# Altium schematic symbol library pporyzala-TI_Lighting.SchLib: 745 symbols (part 13 of 48)
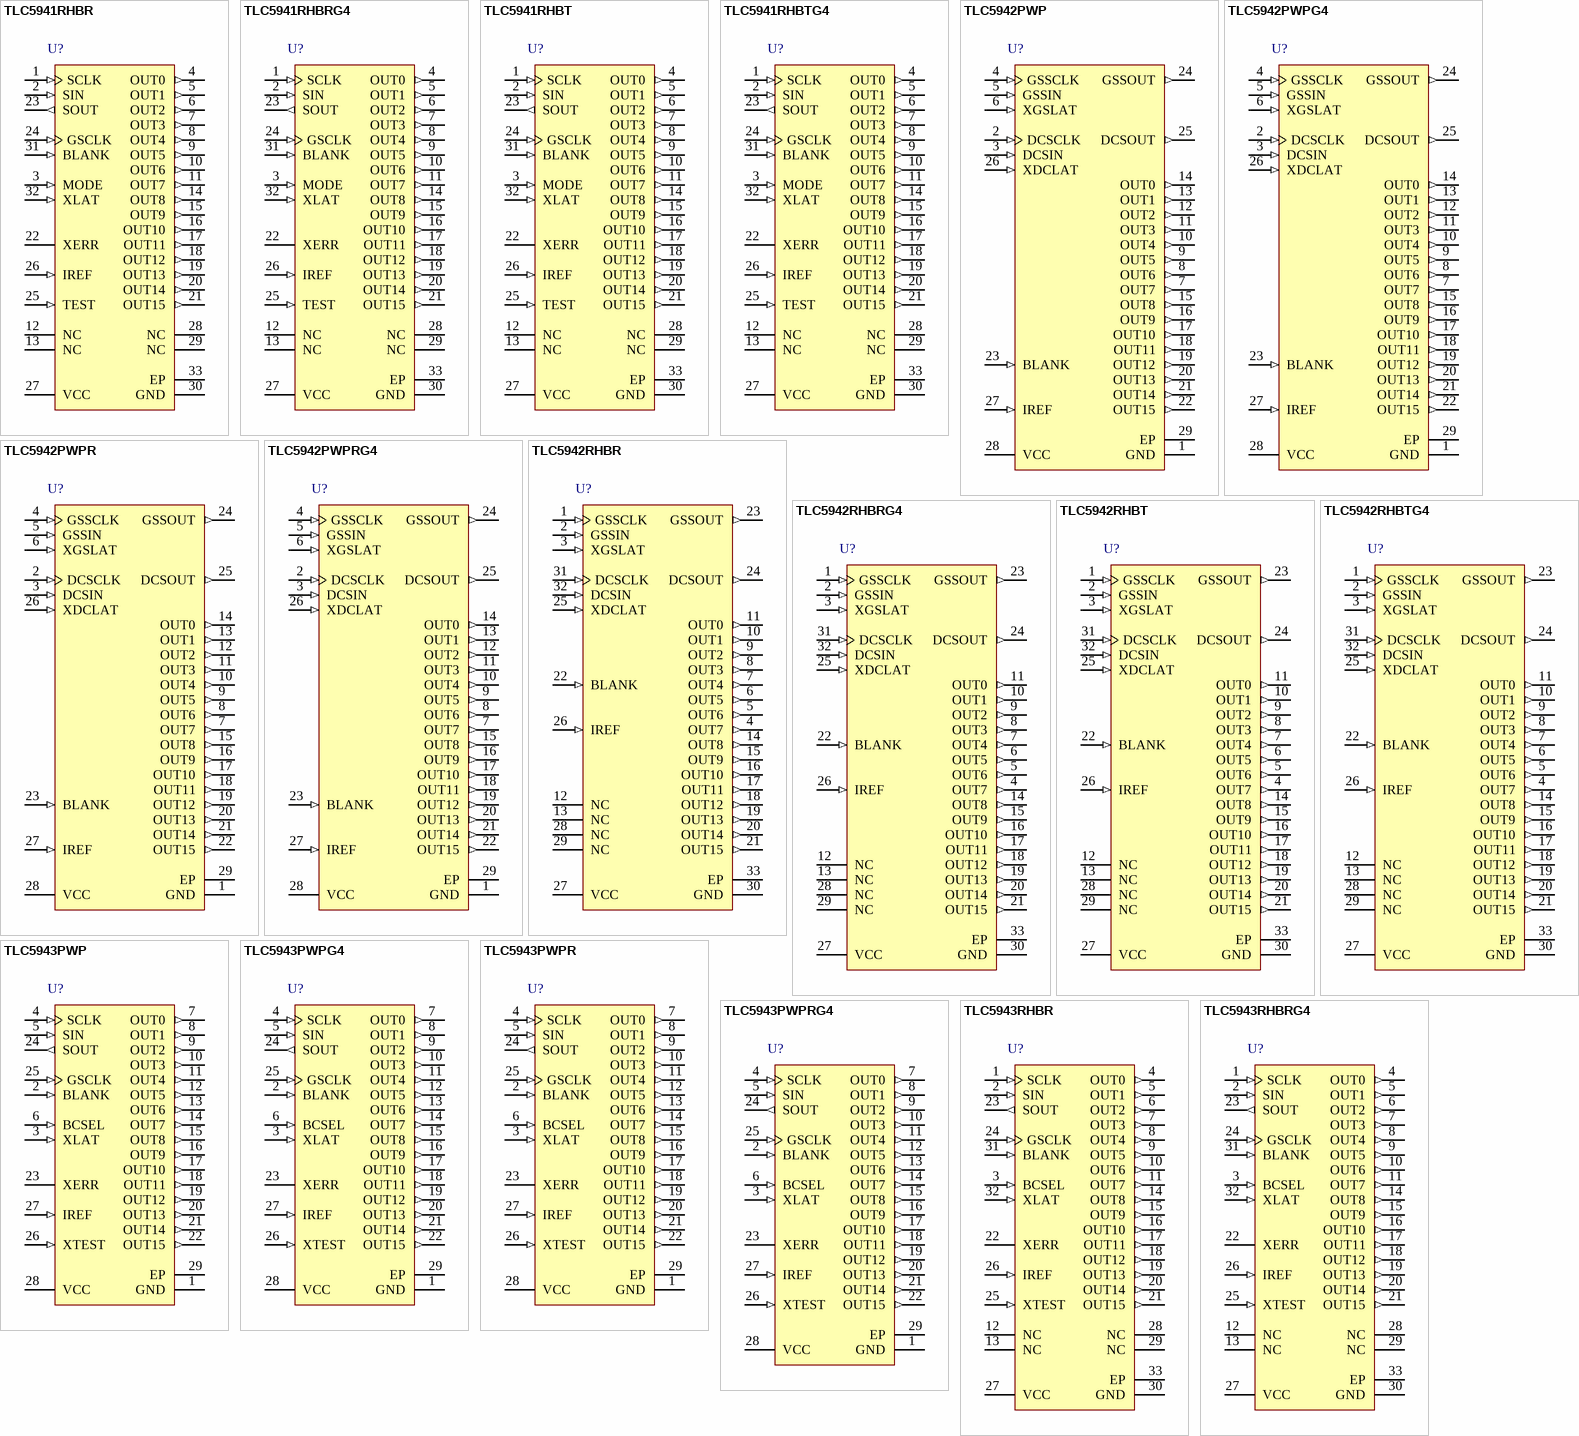
[diagram p43: symbols TLC5941RHBR to TLC5943RHBRG4]

## TLC5942PWPG4
designator U?
16-Channel 12-Bit PWM with 7-Bit DOT Correction, 3 to 5.5 V, -40 to 85 degC, 28-pin SOP (PWP28), Green (RoHS & no Sb/Br); Manufacturer: Texas Instruments; PartNumber: TLC5942PWPG4; Rating: Catalog; SubFamily: LED Driver; Vin(Max)(V): 5.5; Vin(Min)(V): 3; DatasheetVersion: SBVS096B; PackageVersion: 4073225-6/I; PackageReference: PWP28-5720X1950TP; PackageDescription: 28-Pin Plastic Small Outline, Body 4.4 x 9.7 mm, Pitch 0.65 mm; Supplier 1: Digi-Key; Supplier Part Number 1: TLC5942PWPG4-ND; Supplier 2: Mouser; Supplier Part Number 2: 595-TLC5942PWPG4; Eco-Plan: Green (RoHS & no Sb/Br); Mounting Technology: Surface Mount; Code_JEDEC: MO-153; ComponentLink1Description: Manufacturer URL; ComponentLink1URL: http://www.ti.com/; ComponentLink2Description: Datasheet; ComponentLink2URL: http://www.ti.com/general/docs/lit/getliterature.tsp?genericPartNumber=TLC5942&fileType=pdf; ComponentLink3Description: Package Specification; ComponentLink3URL: http://www.ti.com/litv/pdf/mpds373
footprint TI-PWP28-5720X1950TP_N (SOP, 28-Leads, Body 9.7x4.4mm, Pitch 0.65mm, Thermal Pad 5.72 x 1.95mm, IPC Medium Density)
footprint TI-PWP28-5720X1950TP_L (SOP, 28-Leads, Body 9.7x4.4mm, Pitch 0.65mm, Thermal Pad 5.72 x 1.95mm, IPC High Density)
footprint TI-PWP28-5720X1950TP_M (SOP, 28-Leads, Body 9.7x4.4mm, Pitch 0.65mm, Thermal Pad 5.72 x 1.95mm, IPC Low Density)
pins: 1 GND (power) "Power ground", 2 DCSCLK (in) "Serial data shift clock for dot correction. Data present on the DCSIN pin are shifted into the dot correction shift register with each rising edge of the DCSCLK pin. Data are shifted into the LSB of the register with each (See Datasheet)", 3 DCSIN (in) "Serial data input for Dot Correction.", 4 GSSCLK (in) "Serial data shift clock for grayscale and reference clock for Grayscale PWM control. Data present on the GSSIN pin are shifted into the Grayscale Shift Register with each rising edge of the GSSCLK pin. Data are shifted into (See Datasheet)", 5 GSSIN (in) "Serial data input for grayscale.", 6 XGSLAT (in) "Data in the shift register are moved to the grayscale data latch with a low-to-high transition of this pin.", 7 OUT7 (out) "Constant current output", 8 OUT6 (out) "Constant current output", 9 OUT5 (out) "Constant current output", 10 OUT4 (out) "Constant current output", 11 OUT3 (out) "Constant current output", 12 OUT2 (out) "Constant current output", 13 OUT1 (out) "Constant current output", 14 OUT0 (out) "Constant current output", 15 OUT8 (out) "Constant current output", 16 OUT9 (out) "Constant current output", 17 OUT10 (out) "Constant current output", 18 OUT11 (out) "Constant current output", 19 OUT12 (out) "Constant current output", 20 OUT13 (out) "Constant current output", 21 OUT14 (out) "Constant current output", 22 OUT15 (out) "Constant current output", 23 BLANK (in) "Blank (all constant current outputs off). When BLANK is high, all constant current outputs (OUT0 through OUT15) are forced off, the Grayscale counter is reset to '0', and the Grayscale PWM timing controller is initialized. (See Datasheet)", 24 GSSOUT (out) "Serial data output for Grayscale/Status information data. This signal is connected to MSB of Grayscale Shift Register.", 25 DCSOUT (out) "Serial data output for dot correction. This signal is connected to the MSB of the Dot Correction Shift Register.", 26 XDCLAT (in) "Data in the shift register are moved to the dot correction data latch with a low-to-high transition of this pin.", 27 IREF (in) "Constant current value setting. OUT0 through OUT15 sink constant current is set to desired value by connecting an external resistor between IREF and GND.", 28 VCC (power) "Power-supply voltage", 29 EP (power) "Example Solder Mask Defined Pad"

## TLC5942PWPR
designator U?
16-Channel 12-Bit PWM with 7-Bit DOT Correction, 3 to 5.5 V, -40 to 85 degC, 28-pin SOP (PWP28), Green (RoHS & no Sb/Br); Manufacturer: Texas Instruments; PartNumber: TLC5942PWPR; Rating: Catalog; SubFamily: LED Driver; Vin(Max)(V): 5.5; Vin(Min)(V): 3; DatasheetVersion: SBVS096B; PackageVersion: 4073225-6/I; PackageReference: PWP28-5720X1950TP; PackageDescription: 28-Pin Plastic Small Outline, Body 4.4 x 9.7 mm, Pitch 0.65 mm; Supplier 1: Digi-Key; Supplier Part Number 1: TLC5942PWPR-ND; Supplier 2: Mouser; Supplier Part Number 2: 595-TLC5942PWPR; Eco-Plan: Green (RoHS & no Sb/Br); Mounting Technology: Surface Mount; Code_JEDEC: MO-153; ComponentLink1Description: Manufacturer URL; ComponentLink1URL: http://www.ti.com/; ComponentLink2Description: Datasheet; ComponentLink2URL: http://www.ti.com/general/docs/lit/getliterature.tsp?genericPartNumber=TLC5942&fileType=pdf; ComponentLink3Description: Package Specification; ComponentLink3URL: http://www.ti.com/litv/pdf/mpds373
footprint TI-PWP28-5720X1950TP_N (SOP, 28-Leads, Body 9.7x4.4mm, Pitch 0.65mm, Thermal Pad 5.72 x 1.95mm, IPC Medium Density)
footprint TI-PWP28-5720X1950TP_L (SOP, 28-Leads, Body 9.7x4.4mm, Pitch 0.65mm, Thermal Pad 5.72 x 1.95mm, IPC High Density)
footprint TI-PWP28-5720X1950TP_M (SOP, 28-Leads, Body 9.7x4.4mm, Pitch 0.65mm, Thermal Pad 5.72 x 1.95mm, IPC Low Density)
pins: 1 GND (power) "Power ground", 2 DCSCLK (in) "Serial data shift clock for dot correction. Data present on the DCSIN pin are shifted into the dot correction shift register with each rising edge of the DCSCLK pin. Data are shifted into the LSB of the register with each (See Datasheet)", 3 DCSIN (in) "Serial data input for Dot Correction.", 4 GSSCLK (in) "Serial data shift clock for grayscale and reference clock for Grayscale PWM control. Data present on the GSSIN pin are shifted into the Grayscale Shift Register with each rising edge of the GSSCLK pin. Data are shifted into (See Datasheet)", 5 GSSIN (in) "Serial data input for grayscale.", 6 XGSLAT (in) "Data in the shift register are moved to the grayscale data latch with a low-to-high transition of this pin.", 7 OUT7 (out) "Constant current output", 8 OUT6 (out) "Constant current output", 9 OUT5 (out) "Constant current output", 10 OUT4 (out) "Constant current output", 11 OUT3 (out) "Constant current output", 12 OUT2 (out) "Constant current output", 13 OUT1 (out) "Constant current output", 14 OUT0 (out) "Constant current output", 15 OUT8 (out) "Constant current output", 16 OUT9 (out) "Constant current output", 17 OUT10 (out) "Constant current output", 18 OUT11 (out) "Constant current output", 19 OUT12 (out) "Constant current output", 20 OUT13 (out) "Constant current output", 21 OUT14 (out) "Constant current output", 22 OUT15 (out) "Constant current output", 23 BLANK (in) "Blank (all constant current outputs off). When BLANK is high, all constant current outputs (OUT0 through OUT15) are forced off, the Grayscale counter is reset to '0', and the Grayscale PWM timing controller is initialized. (See Datasheet)", 24 GSSOUT (out) "Serial data output for Grayscale/Status information data. This signal is connected to MSB of Grayscale Shift Register.", 25 DCSOUT (out) "Serial data output for dot correction. This signal is connected to the MSB of the Dot Correction Shift Register.", 26 XDCLAT (in) "Data in the shift register are moved to the dot correction data latch with a low-to-high transition of this pin.", 27 IREF (in) "Constant current value setting. OUT0 through OUT15 sink constant current is set to desired value by connecting an external resistor between IREF and GND.", 28 VCC (power) "Power-supply voltage", 29 EP (power) "Example Solder Mask Defined Pad"

## TLC5942PWPRG4
designator U?
16-Channel 12-Bit PWM with 7-Bit DOT Correction, 3 to 5.5 V, -40 to 85 degC, 28-pin SOP (PWP28), Green (RoHS & no Sb/Br); Manufacturer: Texas Instruments; PartNumber: TLC5942PWPRG4; Rating: Catalog; SubFamily: LED Driver; Vin(Max)(V): 5.5; Vin(Min)(V): 3; DatasheetVersion: SBVS096B; PackageVersion: 4073225-6/I; PackageReference: PWP28-5720X1950TP; PackageDescription: 28-Pin Plastic Small Outline, Body 4.4 x 9.7 mm, Pitch 0.65 mm; Supplier 1: Digi-Key; Supplier Part Number 1: TLC5942PWPRG4-ND; Supplier 2: Mouser; Supplier Part Number 2: 595-TLC5942PWPRG4; Eco-Plan: Green (RoHS & no Sb/Br); Mounting Technology: Surface Mount; Code_JEDEC: MO-153; ComponentLink1Description: Manufacturer URL; ComponentLink1URL: http://www.ti.com/; ComponentLink2Description: Datasheet; ComponentLink2URL: http://www.ti.com/general/docs/lit/getliterature.tsp?genericPartNumber=TLC5942&fileType=pdf; ComponentLink3Description: Package Specification; ComponentLink3URL: http://www.ti.com/litv/pdf/mpds373
footprint TI-PWP28-5720X1950TP_N (SOP, 28-Leads, Body 9.7x4.4mm, Pitch 0.65mm, Thermal Pad 5.72 x 1.95mm, IPC Medium Density)
footprint TI-PWP28-5720X1950TP_L (SOP, 28-Leads, Body 9.7x4.4mm, Pitch 0.65mm, Thermal Pad 5.72 x 1.95mm, IPC High Density)
footprint TI-PWP28-5720X1950TP_M (SOP, 28-Leads, Body 9.7x4.4mm, Pitch 0.65mm, Thermal Pad 5.72 x 1.95mm, IPC Low Density)
pins: 1 GND (power) "Power ground", 2 DCSCLK (in) "Serial data shift clock for dot correction. Data present on the DCSIN pin are shifted into the dot correction shift register with each rising edge of the DCSCLK pin. Data are shifted into the LSB of the register with each (See Datasheet)", 3 DCSIN (in) "Serial data input for Dot Correction.", 4 GSSCLK (in) "Serial data shift clock for grayscale and reference clock for Grayscale PWM control. Data present on the GSSIN pin are shifted into the Grayscale Shift Register with each rising edge of the GSSCLK pin. Data are shifted into (See Datasheet)", 5 GSSIN (in) "Serial data input for grayscale.", 6 XGSLAT (in) "Data in the shift register are moved to the grayscale data latch with a low-to-high transition of this pin.", 7 OUT7 (out) "Constant current output", 8 OUT6 (out) "Constant current output", 9 OUT5 (out) "Constant current output", 10 OUT4 (out) "Constant current output", 11 OUT3 (out) "Constant current output", 12 OUT2 (out) "Constant current output", 13 OUT1 (out) "Constant current output", 14 OUT0 (out) "Constant current output", 15 OUT8 (out) "Constant current output", 16 OUT9 (out) "Constant current output", 17 OUT10 (out) "Constant current output", 18 OUT11 (out) "Constant current output", 19 OUT12 (out) "Constant current output", 20 OUT13 (out) "Constant current output", 21 OUT14 (out) "Constant current output", 22 OUT15 (out) "Constant current output", 23 BLANK (in) "Blank (all constant current outputs off). When BLANK is high, all constant current outputs (OUT0 through OUT15) are forced off, the Grayscale counter is reset to '0', and the Grayscale PWM timing controller is initialized. (See Datasheet)", 24 GSSOUT (out) "Serial data output for Grayscale/Status information data. This signal is connected to MSB of Grayscale Shift Register.", 25 DCSOUT (out) "Serial data output for dot correction. This signal is connected to the MSB of the Dot Correction Shift Register.", 26 XDCLAT (in) "Data in the shift register are moved to the dot correction data latch with a low-to-high transition of this pin.", 27 IREF (in) "Constant current value setting. OUT0 through OUT15 sink constant current is set to desired value by connecting an external resistor between IREF and GND.", 28 VCC (power) "Power-supply voltage", 29 EP (power) "Example Solder Mask Defined Pad"

## TLC5942RHBR
designator U?
16-Channel 12-Bit PWM with 7-Bit DOT Correction, 3 to 5.5 V, -40 to 85 degC, 32-pin QFN (RHB32), Green (RoHS & no Sb/Br); Manufacturer: Texas Instruments; PartNumber: TLC5942RHBR; Rating: Catalog; SubFamily: LED Driver; Vin(Max)(V): 5.5; Vin(Min)(V): 3; DatasheetVersion: SBVS096B; PackageVersion: 4204326/D; PackageReference: RHB32-3450X3450TP; PackageDescription: 32-Pin Plastic Flat Pack, Body 5 x 5 mm, Pitch 0.5 mm; Supplier 1: Digi-Key; Supplier Part Number 1: TLC5942RHBR-ND; Supplier 2: Mouser; Supplier Part Number 2: 595-TLC5942RHBR; Eco-Plan: Green (RoHS & no Sb/Br); Mounting Technology: Surface Mount; Code_JEDEC: MO-220; ComponentLink1Description: Manufacturer URL; ComponentLink1URL: http://www.ti.com/; ComponentLink2Description: Datasheet; ComponentLink2URL: http://www.ti.com/general/docs/lit/getliterature.tsp?genericPartNumber=TLC5942&fileType=pdf; ComponentLink3Description: Package Specification; ComponentLink3URL: http://www.ti.com/lit/ml/mpqf130c/mpqf130c.pdf
footprint TI-RHB32-3450X3450TP_V (QFN, 32-Leads, Body 5x5mm, Pitch 0.5mm, Thermal Pad 3.45x3.45mm)
pins: 1 GSSCLK (in) "Serial data shift clock for grayscale and reference clock for Grayscale PWM control. Data present on the GSSIN pin are shifted into the Grayscale Shift Register with each rising edge of the GSSCLK pin. Data are shifted into (See Datasheet)", 2 GSSIN (in) "Serial data input for grayscale.", 3 XGSLAT (in) "Data in the shift register are moved to the grayscale data latch with a low-to-high transition of this pin.", 4 OUT7 (out) "Constant current output", 5 OUT6 (out) "Constant current output", 6 OUT5 (out) "Constant current output", 7 OUT4 (out) "Constant current output", 8 OUT3 (out) "Constant current output", 9 OUT2 (out) "Constant current output", 10 OUT1 (out) "Constant current output", 11 OUT0 (out) "Constant current output", 12 NC "No internal connection", 13 NC "No internal connection", 14 OUT8 (out) "Constant current output", 15 OUT9 (out) "Constant current output", 16 OUT10 (out) "Constant current output", 17 OUT11 (out) "Constant current output", 18 OUT12 (out) "Constant current output", 19 OUT13 (out) "Constant current output", 20 OUT14 (out) "Constant current output", 21 OUT15 (out) "Constant current output", 22 BLANK (in) "Blank (all constant current outputs off). When BLANK is high, all constant current outputs (OUT0 through OUT15) are forced off, the Grayscale counter is reset to '0', and the Grayscale PWM timing controller is initialized. (See Datasheet)", 23 GSSOUT (out) "Serial data output for Grayscale/Status information data. This signal is connected to MSB of Grayscale Shift Register", 24 DCSOUT (out) "Serial data output for dot correction. This signal is connected to the MSB of the Dot Correction Shift Register.", 25 XDCLAT (in) "Data in the shift register are moved to the dot correction data latch with a low-to-high transition of this pin.", 26 IREF (in) "Constant current value setting. OUT0 through OUT15 sink constant current is set to desired value by connecting an external resistor between IREF and GND.", 27 VCC (power) "Power-supply voltage", 28 NC "No internal connection", 29 NC "No internal connection", 30 GND (power) "Power ground", 31 DCSCLK (in) "Serial data shift clock for dot correction. Data present on the DCSIN pin are shifted into the dot correction shift register with each rising edge of the DCSCLK pin. Data are shifted into the LSB of the register with each (See Datasheet)", 32 DCSIN (in) "Serial data input for Dot Correction.", 33 EP (power) "Thermal Pad"

## TLC5942RHBRG4
designator U?
16-Channel 12-Bit PWM with 7-Bit DOT Correction, 3 to 5.5 V, -40 to 85 degC, 32-pin QFN (RHB32), Green (RoHS & no Sb/Br); Manufacturer: Texas Instruments; PartNumber: TLC5942RHBRG4; Rating: Catalog; SubFamily: LED Driver; Vin(Max)(V): 5.5; Vin(Min)(V): 3; DatasheetVersion: SBVS096B; PackageVersion: 4204326/D; PackageReference: RHB32-3450X3450TP; PackageDescription: 32-Pin Plastic Flat Pack, Body 5 x 5 mm, Pitch 0.5 mm; Supplier 1: Digi-Key; Supplier Part Number 1: TLC5942RHBRG4-ND; Supplier 2: Mouser; Supplier Part Number 2: 595-TLC5942RHBRG4; Eco-Plan: Green (RoHS & no Sb/Br); Mounting Technology: Surface Mount; Code_JEDEC: MO-220; ComponentLink1Description: Manufacturer URL; ComponentLink1URL: http://www.ti.com/; ComponentLink2Description: Datasheet; ComponentLink2URL: http://www.ti.com/general/docs/lit/getliterature.tsp?genericPartNumber=TLC5942&fileType=pdf; ComponentLink3Description: Package Specification; ComponentLink3URL: http://www.ti.com/lit/ml/mpqf130c/mpqf130c.pdf
footprint TI-RHB32-3450X3450TP_V (QFN, 32-Leads, Body 5x5mm, Pitch 0.5mm, Thermal Pad 3.45x3.45mm)
pins: 1 GSSCLK (in) "Serial data shift clock for grayscale and reference clock for Grayscale PWM control. Data present on the GSSIN pin are shifted into the Grayscale Shift Register with each rising edge of the GSSCLK pin. Data are shifted into (See Datasheet)", 2 GSSIN (in) "Serial data input for grayscale.", 3 XGSLAT (in) "Data in the shift register are moved to the grayscale data latch with a low-to-high transition of this pin.", 4 OUT7 (out) "Constant current output", 5 OUT6 (out) "Constant current output", 6 OUT5 (out) "Constant current output", 7 OUT4 (out) "Constant current output", 8 OUT3 (out) "Constant current output", 9 OUT2 (out) "Constant current output", 10 OUT1 (out) "Constant current output", 11 OUT0 (out) "Constant current output", 12 NC "No internal connection", 13 NC "No internal connection", 14 OUT8 (out) "Constant current output", 15 OUT9 (out) "Constant current output", 16 OUT10 (out) "Constant current output", 17 OUT11 (out) "Constant current output", 18 OUT12 (out) "Constant current output", 19 OUT13 (out) "Constant current output", 20 OUT14 (out) "Constant current output", 21 OUT15 (out) "Constant current output", 22 BLANK (in) "Blank (all constant current outputs off). When BLANK is high, all constant current outputs (OUT0 through OUT15) are forced off, the Grayscale counter is reset to '0', and the Grayscale PWM timing controller is initialized. (See Datasheet)", 23 GSSOUT (out) "Serial data output for Grayscale/Status information data. This signal is connected to MSB of Grayscale Shift Register", 24 DCSOUT (out) "Serial data output for dot correction. This signal is connected to the MSB of the Dot Correction Shift Register.", 25 XDCLAT (in) "Data in the shift register are moved to the dot correction data latch with a low-to-high transition of this pin.", 26 IREF (in) "Constant current value setting. OUT0 through OUT15 sink constant current is set to desired value by connecting an external resistor between IREF and GND.", 27 VCC (power) "Power-supply voltage", 28 NC "No internal connection", 29 NC "No internal connection", 30 GND (power) "Power ground", 31 DCSCLK (in) "Serial data shift clock for dot correction. Data present on the DCSIN pin are shifted into the dot correction shift register with each rising edge of the DCSCLK pin. Data are shifted into the LSB of the register with each (See Datasheet)", 32 DCSIN (in) "Serial data input for Dot Correction.", 33 EP (power) "Thermal Pad"

## TLC5942RHBT
designator U?
16-Channel 12-Bit PWM with 7-Bit DOT Correction, 3 to 5.5 V, -40 to 85 degC, 32-pin QFN (RHB32), Green (RoHS & no Sb/Br); Manufacturer: Texas Instruments; PartNumber: TLC5942RHBT; Rating: Catalog; SubFamily: LED Driver; Vin(Max)(V): 5.5; Vin(Min)(V): 3; DatasheetVersion: SBVS096B; PackageVersion: 4204326/D; PackageReference: RHB32-3450X3450TP; PackageDescription: 32-Pin Plastic Flat Pack, Body 5 x 5 mm, Pitch 0.5 mm; Supplier 1: Digi-Key; Supplier Part Number 1: 296-22869-2-ND; Supplier 2: Digi-Key; Supplier Part Number 2: 296-22869-1-ND; Supplier 3: Digi-Key; Supplier Part Number 3: 296-22869-6-ND; Supplier 4: Mouser; Supplier Part Number 4: 595-TLC5942RHBT; Eco-Plan: Green (RoHS & no Sb/Br); Mounting Technology: Surface Mount; Code_JEDEC: MO-220; ComponentLink1Description: Manufacturer URL; ComponentLink1URL: http://www.ti.com/; ComponentLink2Description: Datasheet; ComponentLink2URL: http://www.ti.com/general/docs/lit/getliterature.tsp?genericPartNumber=TLC5942&fileType=pdf; ComponentLink3Description: Package Specification; ComponentLink3URL: http://www.ti.com/lit/ml/mpqf130c/mpqf130c.pdf
footprint TI-RHB32-3450X3450TP_V (QFN, 32-Leads, Body 5x5mm, Pitch 0.5mm, Thermal Pad 3.45x3.45mm)
pins: 1 GSSCLK (in) "Serial data shift clock for grayscale and reference clock for Grayscale PWM control. Data present on the GSSIN pin are shifted into the Grayscale Shift Register with each rising edge of the GSSCLK pin. Data are shifted into (See Datasheet)", 2 GSSIN (in) "Serial data input for grayscale.", 3 XGSLAT (in) "Data in the shift register are moved to the grayscale data latch with a low-to-high transition of this pin.", 4 OUT7 (out) "Constant current output", 5 OUT6 (out) "Constant current output", 6 OUT5 (out) "Constant current output", 7 OUT4 (out) "Constant current output", 8 OUT3 (out) "Constant current output", 9 OUT2 (out) "Constant current output", 10 OUT1 (out) "Constant current output", 11 OUT0 (out) "Constant current output", 12 NC "No internal connection", 13 NC "No internal connection", 14 OUT8 (out) "Constant current output", 15 OUT9 (out) "Constant current output", 16 OUT10 (out) "Constant current output", 17 OUT11 (out) "Constant current output", 18 OUT12 (out) "Constant current output", 19 OUT13 (out) "Constant current output", 20 OUT14 (out) "Constant current output", 21 OUT15 (out) "Constant current output", 22 BLANK (in) "Blank (all constant current outputs off). When BLANK is high, all constant current outputs (OUT0 through OUT15) are forced off, the Grayscale counter is reset to '0', and the Grayscale PWM timing controller is initialized. (See Datasheet)", 23 GSSOUT (out) "Serial data output for Grayscale/Status information data. This signal is connected to MSB of Grayscale Shift Register", 24 DCSOUT (out) "Serial data output for dot correction. This signal is connected to the MSB of the Dot Correction Shift Register.", 25 XDCLAT (in) "Data in the shift register are moved to the dot correction data latch with a low-to-high transition of this pin.", 26 IREF (in) "Constant current value setting. OUT0 through OUT15 sink constant current is set to desired value by connecting an external resistor between IREF and GND.", 27 VCC (power) "Power-supply voltage", 28 NC "No internal connection", 29 NC "No internal connection", 30 GND (power) "Power ground", 31 DCSCLK (in) "Serial data shift clock for dot correction. Data present on the DCSIN pin are shifted into the dot correction shift register with each rising edge of the DCSCLK pin. Data are shifted into the LSB of the register with each (See Datasheet)", 32 DCSIN (in) "Serial data input for Dot Correction.", 33 EP (power) "Thermal Pad"

## TLC5942RHBTG4
designator U?
16-Channel 12-Bit PWM with 7-Bit DOT Correction, 3 to 5.5 V, -40 to 85 degC, 32-pin QFN (RHB32), Green (RoHS & no Sb/Br); Manufacturer: Texas Instruments; PartNumber: TLC5942RHBTG4; Rating: Catalog; SubFamily: LED Driver; Vin(Max)(V): 5.5; Vin(Min)(V): 3; DatasheetVersion: SBVS096B; PackageVersion: 4204326/D; PackageReference: RHB32-3450X3450TP; PackageDescription: 32-Pin Plastic Flat Pack, Body 5 x 5 mm, Pitch 0.5 mm; Supplier 1: Digi-Key; Supplier Part Number 1: TLC5942RHBTG4-ND; Supplier 2: Mouser; Supplier Part Number 2: 595-TLC5942RHBTG4; Eco-Plan: Green (RoHS & no Sb/Br); Mounting Technology: Surface Mount; Code_JEDEC: MO-220; ComponentLink1Description: Manufacturer URL; ComponentLink1URL: http://www.ti.com/; ComponentLink2Description: Datasheet; ComponentLink2URL: http://www.ti.com/general/docs/lit/getliterature.tsp?genericPartNumber=TLC5942&fileType=pdf; ComponentLink3Description: Package Specification; ComponentLink3URL: http://www.ti.com/lit/ml/mpqf130c/mpqf130c.pdf
footprint TI-RHB32-3450X3450TP_V (QFN, 32-Leads, Body 5x5mm, Pitch 0.5mm, Thermal Pad 3.45x3.45mm)
pins: 1 GSSCLK (in) "Serial data shift clock for grayscale and reference clock for Grayscale PWM control. Data present on the GSSIN pin are shifted into the Grayscale Shift Register with each rising edge of the GSSCLK pin. Data are shifted into (See Datasheet)", 2 GSSIN (in) "Serial data input for grayscale.", 3 XGSLAT (in) "Data in the shift register are moved to the grayscale data latch with a low-to-high transition of this pin.", 4 OUT7 (out) "Constant current output", 5 OUT6 (out) "Constant current output", 6 OUT5 (out) "Constant current output", 7 OUT4 (out) "Constant current output", 8 OUT3 (out) "Constant current output", 9 OUT2 (out) "Constant current output", 10 OUT1 (out) "Constant current output", 11 OUT0 (out) "Constant current output", 12 NC "No internal connection", 13 NC "No internal connection", 14 OUT8 (out) "Constant current output", 15 OUT9 (out) "Constant current output", 16 OUT10 (out) "Constant current output", 17 OUT11 (out) "Constant current output", 18 OUT12 (out) "Constant current output", 19 OUT13 (out) "Constant current output", 20 OUT14 (out) "Constant current output", 21 OUT15 (out) "Constant current output", 22 BLANK (in) "Blank (all constant current outputs off). When BLANK is high, all constant current outputs (OUT0 through OUT15) are forced off, the Grayscale counter is reset to '0', and the Grayscale PWM timing controller is initialized. (See Datasheet)", 23 GSSOUT (out) "Serial data output for Grayscale/Status information data. This signal is connected to MSB of Grayscale Shift Register", 24 DCSOUT (out) "Serial data output for dot correction. This signal is connected to the MSB of the Dot Correction Shift Register.", 25 XDCLAT (in) "Data in the shift register are moved to the dot correction data latch with a low-to-high transition of this pin.", 26 IREF (in) "Constant current value setting. OUT0 through OUT15 sink constant current is set to desired value by connecting an external resistor between IREF and GND.", 27 VCC (power) "Power-supply voltage", 28 NC "No internal connection", 29 NC "No internal connection", 30 GND (power) "Power ground", 31 DCSCLK (in) "Serial data shift clock for dot correction. Data present on the DCSIN pin are shifted into the dot correction shift register with each rising edge of the DCSCLK pin. Data are shifted into the LSB of the register with each (See Datasheet)", 32 DCSIN (in) "Serial data input for Dot Correction.", 33 EP (power) "Thermal Pad"

## TLC5943PWP
designator U?
16-Bit ES-PWM with 7-Bit Device Level Brightness Control, 3 to 5.5 V, -40 to 85 degC, 28-pin SOP (PWP28), Green (RoHS & no Sb/Br); Manufacturer: Texas Instruments; PartNumber: TLC5943PWP; Rating: Catalog; SubFamily: LED Driver; Vin(Max)(V): 5.5; Vin(Min)(V): 3; DatasheetVersion: SBVS101; PackageVersion: 4073225-6/I; PackageReference: PWP28-5720X1950TP; PackageDescription: 28-Pin Plastic Small Outline, Body 4.4 x 9.7 mm, Pitch 0.65 mm; Supplier 1: Digi-Key; Supplier Part Number 1: 296-34379-5-ND; Supplier 2: Farnell; Supplier Part Number 2: 1697155; Supplier 3: Newark; Supplier Part Number 3: 72M4737; Supplier 4: Mouser; Supplier Part Number 4: 595-TLC5943PWP; Eco-Plan: Green (RoHS & no Sb/Br); Mounting Technology: Surface Mount; Code_JEDEC: MO-153; ComponentLink1Description: Manufacturer URL; ComponentLink1URL: http://www.ti.com/; ComponentLink2Description: Datasheet; ComponentLink2URL: http://www.ti.com/general/docs/lit/getliterature.tsp?genericPartNumber=TLC5943&fileType=pdf; ComponentLink3Description: Package Specification; ComponentLink3URL: http://www.ti.com/litv/pdf/mpds373
footprint TI-PWP28-5720X1950TP_N (SOP, 28-Leads, Body 9.7x4.4mm, Pitch 0.65mm, Thermal Pad 5.72 x 1.95mm, IPC Medium Density)
footprint TI-PWP28-5720X1950TP_L (SOP, 28-Leads, Body 9.7x4.4mm, Pitch 0.65mm, Thermal Pad 5.72 x 1.95mm, IPC High Density)
footprint TI-PWP28-5720X1950TP_M (SOP, 28-Leads, Body 9.7x4.4mm, Pitch 0.65mm, Thermal Pad 5.72 x 1.95mm, IPC Low Density)
pins: 1 GND (power) "Power ground", 2 BLANK (in) "Blank (all constant current outputs off). When BLANK is high, all constant current outputs (OUT0 through OUT15) are forced off, the Grayscale counter is reset to '0', and the Grayscale PWM timing controller is initialized. (See Datasheet)", 3 XLAT (in) "Data in the Grayscale and Brightness shift register are moved to the respective first data latch with a low-to-high transition of this pin", 4 SCLK (in) "Serial data shift clock for GS shift register and BC shift register. Schmitt buffer input. The shift register is selected by BCSEL. Data present on the SIN pin are shifted into the shift register selected by BCSEL with the (See Datasheet)", 5 SIN (in) "Serial data input for grayscale and brightness control data. Schmitt buffer input.", 6 BCSEL (in) "Shift register and data latch select. Schmitt buffer input. When BCSEL is low, Grayscale shift register and first data latch are selected. When BCSEL is high, Brightness Control shift register and first data latch are (See Datasheet)", 7 OUT0 (out) "Constant current output.", 8 OUT1 (out) "Constant current output.", 9 OUT2 (out) "Constant current output.", 10 OUT3 (out) "Constant current output.", 11 OUT4 (out) "Constant current output.", 12 OUT5 (out) "Constant current output.", 13 OUT6 (out) "Constant current output.", 14 OUT7 (out) "Constant current output.", 15 OUT8 (out) "Constant current output", 16 OUT9 (out) "Constant current output", 17 OUT10 (out) "Constant current output", 18 OUT11 (out) "Constant current output", 19 OUT12 (out) "Constant current output", 20 OUT13 (out) "Constant current output", 21 OUT14 (out) "Constant current output", 22 OUT15 (out) "Constant current output", 23 XERR (hiz) "Error output. Open-drain output. XERR goes low when LOD or TEF is detected.", 24 SOUT (out) "Serial data output. This output is connected to Grayscale/Status Information shift register or Brightness Control shift register. The connected register is selected by BCSEL", 25 GSCLK (in) "Reference clock for Grayscale PWM control. Schmitt buffer input. If BLANK is low, then each rising edge of GSCLK increments the grayscale counter for PWM control.", 26 XTEST (in) "Factory test pin. XTEST must be connected to VCC or GND", 27 IREF (in) "Constant current value setting. OUT0 through OUT15 sink constant current is set to desired value by connecting an external resistor between IREF and GND.", 28 VCC (power) "Power-supply voltage", 29 EP (power) "Example Solder Mask Defined Pad"

## TLC5943PWPG4
designator U?
16-Bit ES-PWM with 7-Bit Device Level Brightness Control, 3 to 5.5 V, -40 to 85 degC, 28-pin SOP (PWP28), Green (RoHS & no Sb/Br); Manufacturer: Texas Instruments; PartNumber: TLC5943PWPG4; Rating: Catalog; SubFamily: LED Driver; Vin(Max)(V): 5.5; Vin(Min)(V): 3; DatasheetVersion: SBVS101; PackageVersion: 4073225-6/I; PackageReference: PWP28-5720X1950TP; PackageDescription: 28-Pin Plastic Small Outline, Body 4.4 x 9.7 mm, Pitch 0.65 mm; Supplier 1: Digi-Key; Supplier Part Number 1: TLC5943PWPG4-ND; Supplier 2: Newark; Supplier Part Number 2: 34P6406; Supplier 3: Mouser; Supplier Part Number 3: 595-TLC5943PWPG4; Eco-Plan: Green (RoHS & no Sb/Br); Mounting Technology: Surface Mount; Code_JEDEC: MO-153; ComponentLink1Description: Manufacturer URL; ComponentLink1URL: http://www.ti.com/; ComponentLink2Description: Datasheet; ComponentLink2URL: http://www.ti.com/general/docs/lit/getliterature.tsp?genericPartNumber=TLC5943&fileType=pdf; ComponentLink3Description: Package Specification; ComponentLink3URL: http://www.ti.com/litv/pdf/mpds373
footprint TI-PWP28-5720X1950TP_N (SOP, 28-Leads, Body 9.7x4.4mm, Pitch 0.65mm, Thermal Pad 5.72 x 1.95mm, IPC Medium Density)
footprint TI-PWP28-5720X1950TP_L (SOP, 28-Leads, Body 9.7x4.4mm, Pitch 0.65mm, Thermal Pad 5.72 x 1.95mm, IPC High Density)
footprint TI-PWP28-5720X1950TP_M (SOP, 28-Leads, Body 9.7x4.4mm, Pitch 0.65mm, Thermal Pad 5.72 x 1.95mm, IPC Low Density)
pins: 1 GND (power) "Power ground", 2 BLANK (in) "Blank (all constant current outputs off). When BLANK is high, all constant current outputs (OUT0 through OUT15) are forced off, the Grayscale counter is reset to '0', and the Grayscale PWM timing controller is initialized. (See Datasheet)", 3 XLAT (in) "Data in the Grayscale and Brightness shift register are moved to the respective first data latch with a low-to-high transition of this pin", 4 SCLK (in) "Serial data shift clock for GS shift register and BC shift register. Schmitt buffer input. The shift register is selected by BCSEL. Data present on the SIN pin are shifted into the shift register selected by BCSEL with the (See Datasheet)", 5 SIN (in) "Serial data input for grayscale and brightness control data. Schmitt buffer input.", 6 BCSEL (in) "Shift register and data latch select. Schmitt buffer input. When BCSEL is low, Grayscale shift register and first data latch are selected. When BCSEL is high, Brightness Control shift register and first data latch are (See Datasheet)", 7 OUT0 (out) "Constant current output.", 8 OUT1 (out) "Constant current output.", 9 OUT2 (out) "Constant current output.", 10 OUT3 (out) "Constant current output.", 11 OUT4 (out) "Constant current output.", 12 OUT5 (out) "Constant current output.", 13 OUT6 (out) "Constant current output.", 14 OUT7 (out) "Constant current output.", 15 OUT8 (out) "Constant current output", 16 OUT9 (out) "Constant current output", 17 OUT10 (out) "Constant current output", 18 OUT11 (out) "Constant current output", 19 OUT12 (out) "Constant current output", 20 OUT13 (out) "Constant current output", 21 OUT14 (out) "Constant current output", 22 OUT15 (out) "Constant current output", 23 XERR (hiz) "Error output. Open-drain output. XERR goes low when LOD or TEF is detected.", 24 SOUT (out) "Serial data output. This output is connected to Grayscale/Status Information shift register or Brightness Control shift register. The connected register is selected by BCSEL", 25 GSCLK (in) "Reference clock for Grayscale PWM control. Schmitt buffer input. If BLANK is low, then each rising edge of GSCLK increments the grayscale counter for PWM control.", 26 XTEST (in) "Factory test pin. XTEST must be connected to VCC or GND", 27 IREF (in) "Constant current value setting. OUT0 through OUT15 sink constant current is set to desired value by connecting an external resistor between IREF and GND.", 28 VCC (power) "Power-supply voltage", 29 EP (power) "Example Solder Mask Defined Pad"

## TLC5943PWPR
designator U?
16-Bit ES-PWM with 7-Bit Device Level Brightness Control, 3 to 5.5 V, -40 to 85 degC, 28-pin SOP (PWP28), Green (RoHS & no Sb/Br); Manufacturer: Texas Instruments; PartNumber: TLC5943PWPR; Rating: Catalog; SubFamily: LED Driver; Vin(Max)(V): 5.5; Vin(Min)(V): 3; DatasheetVersion: SBVS101; PackageVersion: 4073225-6/I; PackageReference: PWP28-5720X1950TP; PackageDescription: 28-Pin Plastic Small Outline, Body 4.4 x 9.7 mm, Pitch 0.65 mm; Supplier 1: Digi-Key; Supplier Part Number 1: 296-22974-2-ND; Supplier 2: Digi-Key; Supplier Part Number 2: 296-22974-1-ND; Supplier 3: Digi-Key; Supplier Part Number 3: 296-22974-6-ND; Supplier 4: Newark; Supplier Part Number 4: 72M4738; Supplier 5: Mouser; Supplier Part Number 5: 595-TLC5943PWPR; Eco-Plan: Green (RoHS & no Sb/Br); Mounting Technology: Surface Mount; Code_JEDEC: MO-153; ComponentLink1Description: Manufacturer URL; ComponentLink1URL: http://www.ti.com/; ComponentLink2Description: Datasheet; ComponentLink2URL: http://www.ti.com/general/docs/lit/getliterature.tsp?genericPartNumber=TLC5943&fileType=pdf; ComponentLink3Description: Package Specification; ComponentLink3URL: http://www.ti.com/litv/pdf/mpds373
footprint TI-PWP28-5720X1950TP_N (SOP, 28-Leads, Body 9.7x4.4mm, Pitch 0.65mm, Thermal Pad 5.72 x 1.95mm, IPC Medium Density)
footprint TI-PWP28-5720X1950TP_L (SOP, 28-Leads, Body 9.7x4.4mm, Pitch 0.65mm, Thermal Pad 5.72 x 1.95mm, IPC High Density)
footprint TI-PWP28-5720X1950TP_M (SOP, 28-Leads, Body 9.7x4.4mm, Pitch 0.65mm, Thermal Pad 5.72 x 1.95mm, IPC Low Density)
pins: 1 GND (power) "Power ground", 2 BLANK (in) "Blank (all constant current outputs off). When BLANK is high, all constant current outputs (OUT0 through OUT15) are forced off, the Grayscale counter is reset to '0', and the Grayscale PWM timing controller is initialized. (See Datasheet)", 3 XLAT (in) "Data in the Grayscale and Brightness shift register are moved to the respective first data latch with a low-to-high transition of this pin", 4 SCLK (in) "Serial data shift clock for GS shift register and BC shift register. Schmitt buffer input. The shift register is selected by BCSEL. Data present on the SIN pin are shifted into the shift register selected by BCSEL with the (See Datasheet)", 5 SIN (in) "Serial data input for grayscale and brightness control data. Schmitt buffer input.", 6 BCSEL (in) "Shift register and data latch select. Schmitt buffer input. When BCSEL is low, Grayscale shift register and first data latch are selected. When BCSEL is high, Brightness Control shift register and first data latch are (See Datasheet)", 7 OUT0 (out) "Constant current output.", 8 OUT1 (out) "Constant current output.", 9 OUT2 (out) "Constant current output.", 10 OUT3 (out) "Constant current output.", 11 OUT4 (out) "Constant current output.", 12 OUT5 (out) "Constant current output.", 13 OUT6 (out) "Constant current output.", 14 OUT7 (out) "Constant current output.", 15 OUT8 (out) "Constant current output", 16 OUT9 (out) "Constant current output", 17 OUT10 (out) "Constant current output", 18 OUT11 (out) "Constant current output", 19 OUT12 (out) "Constant current output", 20 OUT13 (out) "Constant current output", 21 OUT14 (out) "Constant current output", 22 OUT15 (out) "Constant current output", 23 XERR (hiz) "Error output. Open-drain output. XERR goes low when LOD or TEF is detected.", 24 SOUT (out) "Serial data output. This output is connected to Grayscale/Status Information shift register or Brightness Control shift register. The connected register is selected by BCSEL", 25 GSCLK (in) "Reference clock for Grayscale PWM control. Schmitt buffer input. If BLANK is low, then each rising edge of GSCLK increments the grayscale counter for PWM control.", 26 XTEST (in) "Factory test pin. XTEST must be connected to VCC or GND", 27 IREF (in) "Constant current value setting. OUT0 through OUT15 sink constant current is set to desired value by connecting an external resistor between IREF and GND.", 28 VCC (power) "Power-supply voltage", 29 EP (power) "Example Solder Mask Defined Pad"

## TLC5943PWPRG4
designator U?
16-Bit ES-PWM with 7-Bit Device Level Brightness Control, 3 to 5.5 V, -40 to 85 degC, 28-pin SOP (PWP28), Green (RoHS & no Sb/Br); Manufacturer: Texas Instruments; PartNumber: TLC5943PWPRG4; Rating: Catalog; SubFamily: LED Driver; Vin(Max)(V): 5.5; Vin(Min)(V): 3; DatasheetVersion: SBVS101; PackageVersion: 4073225-6/I; PackageReference: PWP28-5720X1950TP; PackageDescription: 28-Pin Plastic Small Outline, Body 4.4 x 9.7 mm, Pitch 0.65 mm; Supplier 1: Digi-Key; Supplier Part Number 1: TLC5943PWPRG4-ND; Supplier 2: Mouser; Supplier Part Number 2: 595-TLC5943PWPRG4; Eco-Plan: Green (RoHS & no Sb/Br); Mounting Technology: Surface Mount; Code_JEDEC: MO-153; ComponentLink1Description: Manufacturer URL; ComponentLink1URL: http://www.ti.com/; ComponentLink2Description: Datasheet; ComponentLink2URL: http://www.ti.com/general/docs/lit/getliterature.tsp?genericPartNumber=TLC5943&fileType=pdf; ComponentLink3Description: Package Specification; ComponentLink3URL: http://www.ti.com/litv/pdf/mpds373
footprint TI-PWP28-5720X1950TP_N (SOP, 28-Leads, Body 9.7x4.4mm, Pitch 0.65mm, Thermal Pad 5.72 x 1.95mm, IPC Medium Density)
footprint TI-PWP28-5720X1950TP_L (SOP, 28-Leads, Body 9.7x4.4mm, Pitch 0.65mm, Thermal Pad 5.72 x 1.95mm, IPC High Density)
footprint TI-PWP28-5720X1950TP_M (SOP, 28-Leads, Body 9.7x4.4mm, Pitch 0.65mm, Thermal Pad 5.72 x 1.95mm, IPC Low Density)
pins: 1 GND (power) "Power ground", 2 BLANK (in) "Blank (all constant current outputs off). When BLANK is high, all constant current outputs (OUT0 through OUT15) are forced off, the Grayscale counter is reset to '0', and the Grayscale PWM timing controller is initialized. (See Datasheet)", 3 XLAT (in) "Data in the Grayscale and Brightness shift register are moved to the respective first data latch with a low-to-high transition of this pin", 4 SCLK (in) "Serial data shift clock for GS shift register and BC shift register. Schmitt buffer input. The shift register is selected by BCSEL. Data present on the SIN pin are shifted into the shift register selected by BCSEL with the (See Datasheet)", 5 SIN (in) "Serial data input for grayscale and brightness control data. Schmitt buffer input.", 6 BCSEL (in) "Shift register and data latch select. Schmitt buffer input. When BCSEL is low, Grayscale shift register and first data latch are selected. When BCSEL is high, Brightness Control shift register and first data latch are (See Datasheet)", 7 OUT0 (out) "Constant current output.", 8 OUT1 (out) "Constant current output.", 9 OUT2 (out) "Constant current output.", 10 OUT3 (out) "Constant current output.", 11 OUT4 (out) "Constant current output.", 12 OUT5 (out) "Constant current output.", 13 OUT6 (out) "Constant current output.", 14 OUT7 (out) "Constant current output.", 15 OUT8 (out) "Constant current output", 16 OUT9 (out) "Constant current output", 17 OUT10 (out) "Constant current output", 18 OUT11 (out) "Constant current output", 19 OUT12 (out) "Constant current output", 20 OUT13 (out) "Constant current output", 21 OUT14 (out) "Constant current output", 22 OUT15 (out) "Constant current output", 23 XERR (hiz) "Error output. Open-drain output. XERR goes low when LOD or TEF is detected.", 24 SOUT (out) "Serial data output. This output is connected to Grayscale/Status Information shift register or Brightness Control shift register. The connected register is selected by BCSEL", 25 GSCLK (in) "Reference clock for Grayscale PWM control. Schmitt buffer input. If BLANK is low, then each rising edge of GSCLK increments the grayscale counter for PWM control.", 26 XTEST (in) "Factory test pin. XTEST must be connected to VCC or GND", 27 IREF (in) "Constant current value setting. OUT0 through OUT15 sink constant current is set to desired value by connecting an external resistor between IREF and GND.", 28 VCC (power) "Power-supply voltage", 29 EP (power) "Example Solder Mask Defined Pad"

## TLC5943RHBR
designator U?
16-Bit ES-PWM with 7-Bit Device Level Brightness Control, 3 to 5.5 V, -40 to 85 degC, 32-pin QFN (RHB32), Green (RoHS & no Sb/Br); Manufacturer: Texas Instruments; PartNumber: TLC5943RHBR; Rating: Catalog; SubFamily: LED Driver; Vin(Max)(V): 5.5; Vin(Min)(V): 3; DatasheetVersion: SBVS101; PackageVersion: 4204326/D; PackageReference: RHB32-3450X3450TP; PackageDescription: 32-Pin Plastic Flat Pack, Body 5 x 5 mm, Pitch 0.5 mm; Supplier 1: Digi-Key; Supplier Part Number 1: 296-23091-2-ND; Supplier 2: Digi-Key; Supplier Part Number 2: 296-23091-1-ND; Supplier 3: Digi-Key; Supplier Part Number 3: 296-23091-6-ND; Supplier 4: Newark; Supplier Part Number 4: 85M0147; Supplier 5: Mouser; Supplier Part Number 5: 595-TLC5943RHBR; Eco-Plan: Green (RoHS & no Sb/Br); Mounting Technology: Surface Mount; Code_JEDEC: MO-220; ComponentLink1Description: Manufacturer URL; ComponentLink1URL: http://www.ti.com/; ComponentLink2Description: Datasheet; ComponentLink2URL: http://www.ti.com/general/docs/lit/getliterature.tsp?genericPartNumber=TLC5943&fileType=pdf; ComponentLink3Description: Package Specification; ComponentLink3URL: http://www.ti.com/lit/ml/mpqf130c/mpqf130c.pdf
footprint TI-RHB32-3450X3450TP_V (QFN, 32-Leads, Body 5x5mm, Pitch 0.5mm, Thermal Pad 3.45x3.45mm)
pins: 1 SCLK (in) "Serial data shift clock for GS shift register and BC shift register. Schmitt buffer input. The shift register is selected by BCSEL. Data present on the SIN pin are shifted into the shift register selected by BCSEL with the (See Datasheet)", 2 SIN (in) "Serial data input for grayscale and brightness control data. Schmitt buffer input.", 3 BCSEL (in) "Shift register and data latch select. Schmitt buffer input. When BCSEL is low, Grayscale shift register and first data latch are selected. When BCSEL is high, Brightness Control shift register and first data latch are (See Datasheet)", 4 OUT0 (out) "Constant current output.", 5 OUT1 (out) "Constant current output.", 6 OUT2 (out) "Constant current output.", 7 OUT3 (out) "Constant current output.", 8 OUT4 (out) "Constant current output.", 9 OUT5 (out) "Constant current output.", 10 OUT6 (out) "Constant current output.", 11 OUT7 (out) "Constant current output.", 12 NC "No internal connection", 13 NC "No internal connection", 14 OUT8 (out) "Constant current output.", 15 OUT9 (out) "Constant current output.", 16 OUT10 (out) "Constant current output.", 17 OUT11 (out) "Constant current output.", 18 OUT12 (out) "Constant current output.", 19 OUT13 (out) "Constant current output.", 20 OUT14 (out) "Constant current output.", 21 OUT15 (out) "Constant current output.", 22 XERR (hiz) "Error output. Open-drain output. XERR goes low when LOD or TEF is detected.", 23 SOUT (out) "Serial data output. This output is connected to Grayscale/Status Information shift register or Brightness Control shift register. The connected register is selected by BCSEL.", 24 GSCLK (in) "Reference clock for Grayscale PWM control. Schmitt buffer input. If BLANK is low, then each rising edge of GSCLK increments the grayscale counter for PWM control.", 25 XTEST (in) "Factory test pin. XTEST must be connected to VCC or GND.", 26 IREF (in) "Constant current value setting. OUT0 through OUT15 sink constant current is set to desired value by connecting an external resistor between IREF and GND.", 27 VCC (power) "Power-supply voltage", 28 NC "No internal connection", 29 NC "No internal connection", 30 GND (power) "Power ground", 31 BLANK (in) "Blank (all constant current outputs off). Schmitt buffer input. When BLANK is high, all constant current outputs (OUT0 through OUT15) are forced off, the Grayscale counter is reset to '0', and the Grayscale PWM timing (See Datasheet)", 32 XLAT (in) "Data in the Grayscale and Brightness shift register are moved to the respective first data latch with a low-to-high transition of this pin.", 33 EP "Exposed Thermal Pad"

## TLC5943RHBRG4
designator U?
16-Bit ES-PWM with 7-Bit Device Level Brightness Control, 3 to 5.5 V, -40 to 85 degC, 32-pin QFN (RHB32), Green (RoHS & no Sb/Br); Manufacturer: Texas Instruments; PartNumber: TLC5943RHBRG4; Rating: Catalog; SubFamily: LED Driver; Vin(Max)(V): 5.5; Vin(Min)(V): 3; DatasheetVersion: SBVS101; PackageVersion: 4204326/D; PackageReference: RHB32-3450X3450TP; PackageDescription: 32-Pin Plastic Flat Pack, Body 5 x 5 mm, Pitch 0.5 mm; Supplier 1: Digi-Key; Supplier Part Number 1: TLC5943RHBRG4-ND; Supplier 2: Mouser; Supplier Part Number 2: 595-TLC5943RHBRG4; Eco-Plan: Green (RoHS & no Sb/Br); Mounting Technology: Surface Mount; Code_JEDEC: MO-220; ComponentLink1Description: Manufacturer URL; ComponentLink1URL: http://www.ti.com/; ComponentLink2Description: Datasheet; ComponentLink2URL: http://www.ti.com/general/docs/lit/getliterature.tsp?genericPartNumber=TLC5943&fileType=pdf; ComponentLink3Description: Package Specification; ComponentLink3URL: http://www.ti.com/lit/ml/mpqf130c/mpqf130c.pdf
footprint TI-RHB32-3450X3450TP_V (QFN, 32-Leads, Body 5x5mm, Pitch 0.5mm, Thermal Pad 3.45x3.45mm)
pins: 1 SCLK (in) "Serial data shift clock for GS shift register and BC shift register. Schmitt buffer input. The shift register is selected by BCSEL. Data present on the SIN pin are shifted into the shift register selected by BCSEL with the (See Datasheet)", 2 SIN (in) "Serial data input for grayscale and brightness control data. Schmitt buffer input.", 3 BCSEL (in) "Shift register and data latch select. Schmitt buffer input. When BCSEL is low, Grayscale shift register and first data latch are selected. When BCSEL is high, Brightness Control shift register and first data latch are (See Datasheet)", 4 OUT0 (out) "Constant current output.", 5 OUT1 (out) "Constant current output.", 6 OUT2 (out) "Constant current output.", 7 OUT3 (out) "Constant current output.", 8 OUT4 (out) "Constant current output.", 9 OUT5 (out) "Constant current output.", 10 OUT6 (out) "Constant current output.", 11 OUT7 (out) "Constant current output.", 12 NC "No internal connection", 13 NC "No internal connection", 14 OUT8 (out) "Constant current output.", 15 OUT9 (out) "Constant current output.", 16 OUT10 (out) "Constant current output.", 17 OUT11 (out) "Constant current output.", 18 OUT12 (out) "Constant current output.", 19 OUT13 (out) "Constant current output.", 20 OUT14 (out) "Constant current output.", 21 OUT15 (out) "Constant current output.", 22 XERR (hiz) "Error output. Open-drain output. XERR goes low when LOD or TEF is detected.", 23 SOUT (out) "Serial data output. This output is connected to Grayscale/Status Information shift register or Brightness Control shift register. The connected register is selected by BCSEL.", 24 GSCLK (in) "Reference clock for Grayscale PWM control. Schmitt buffer input. If BLANK is low, then each rising edge of GSCLK increments the grayscale counter for PWM control.", 25 XTEST (in) "Factory test pin. XTEST must be connected to VCC or GND.", 26 IREF (in) "Constant current value setting. OUT0 through OUT15 sink constant current is set to desired value by connecting an external resistor between IREF and GND.", 27 VCC (power) "Power-supply voltage", 28 NC "No internal connection", 29 NC "No internal connection", 30 GND (power) "Power ground", 31 BLANK (in) "Blank (all constant current outputs off). Schmitt buffer input. When BLANK is high, all constant current outputs (OUT0 through OUT15) are forced off, the Grayscale counter is reset to '0', and the Grayscale PWM timing (See Datasheet)", 32 XLAT (in) "Data in the Grayscale and Brightness shift register are moved to the respective first data latch with a low-to-high transition of this pin.", 33 EP "Exposed Thermal Pad"

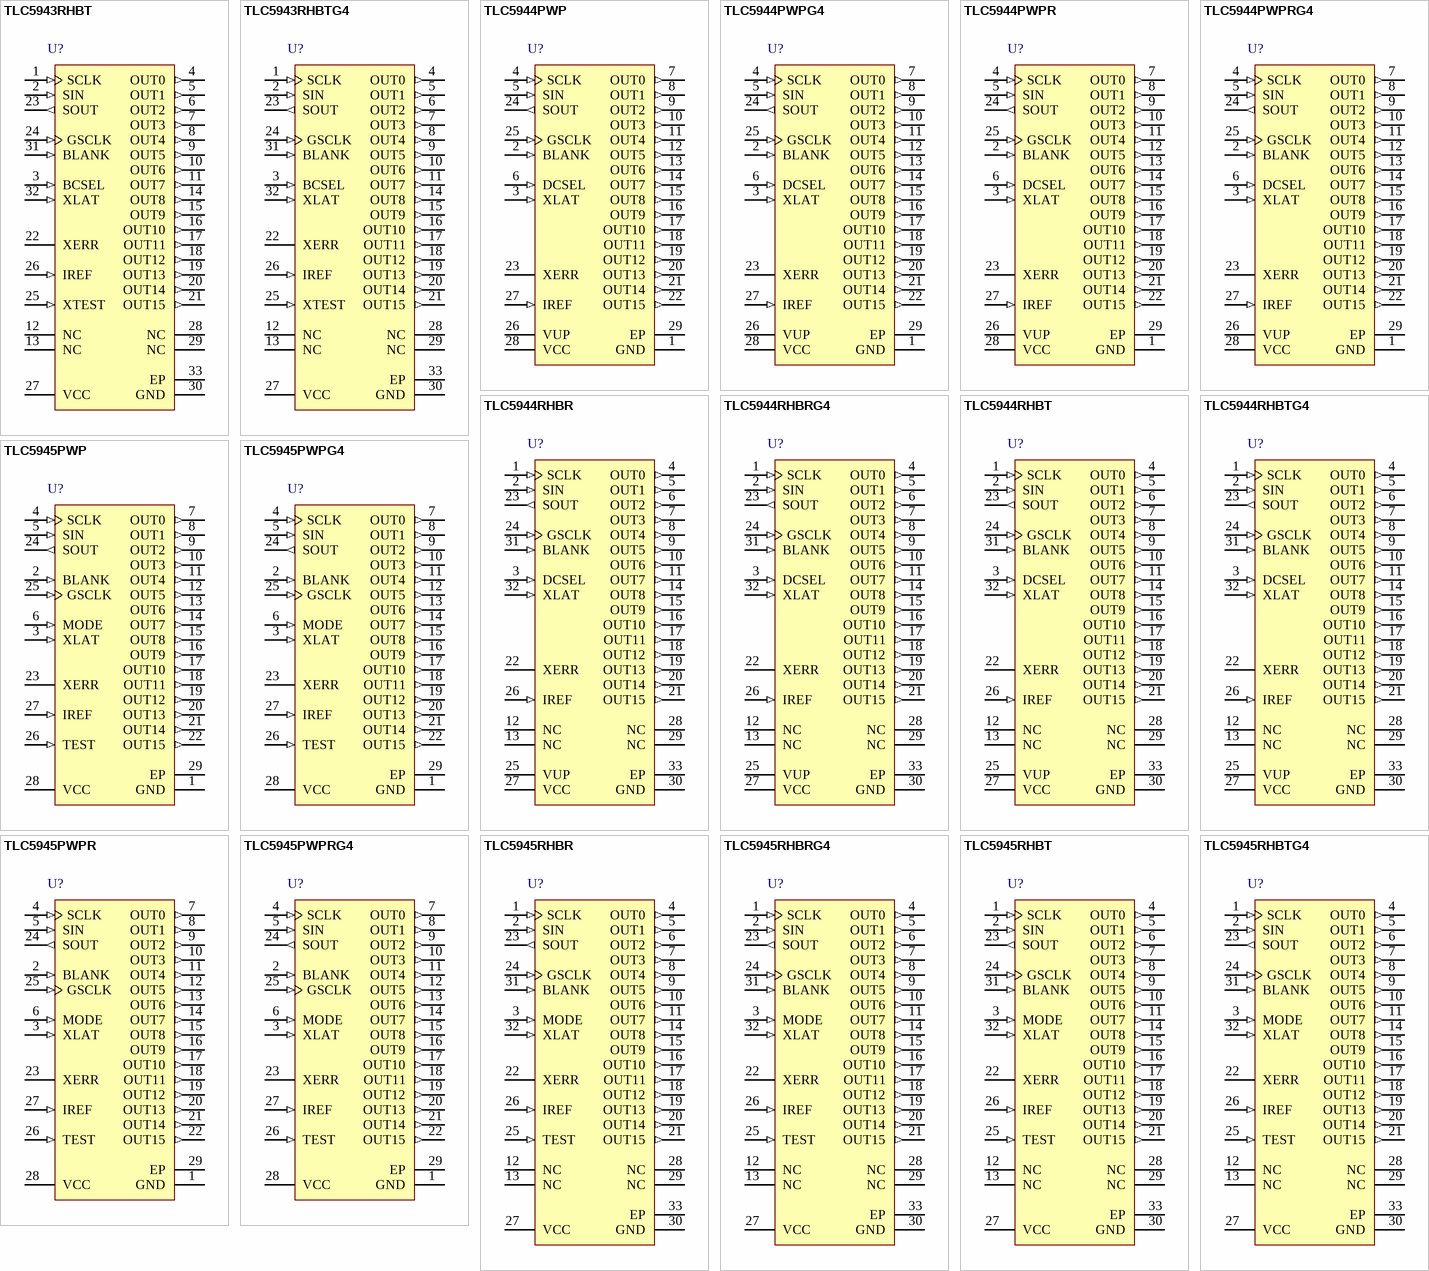
[diagram p10: symbols TLC5943RHBT to TLC5945RHBTG4]